# Altium footprint library TH-SMT_WT_MP 1.0.PcbLib: 31 footprints (part 1 of 2)
Each footprint in its own frame and in the unit in brackets; x right, y up, seen from the top. Pads: shape width x height; smd on the part's side, far side on the other; paste and mask are expansions set on the pad; w line width, h text height; cw(c..) or ccw(c..) is an arc to the next point about the centre after c.
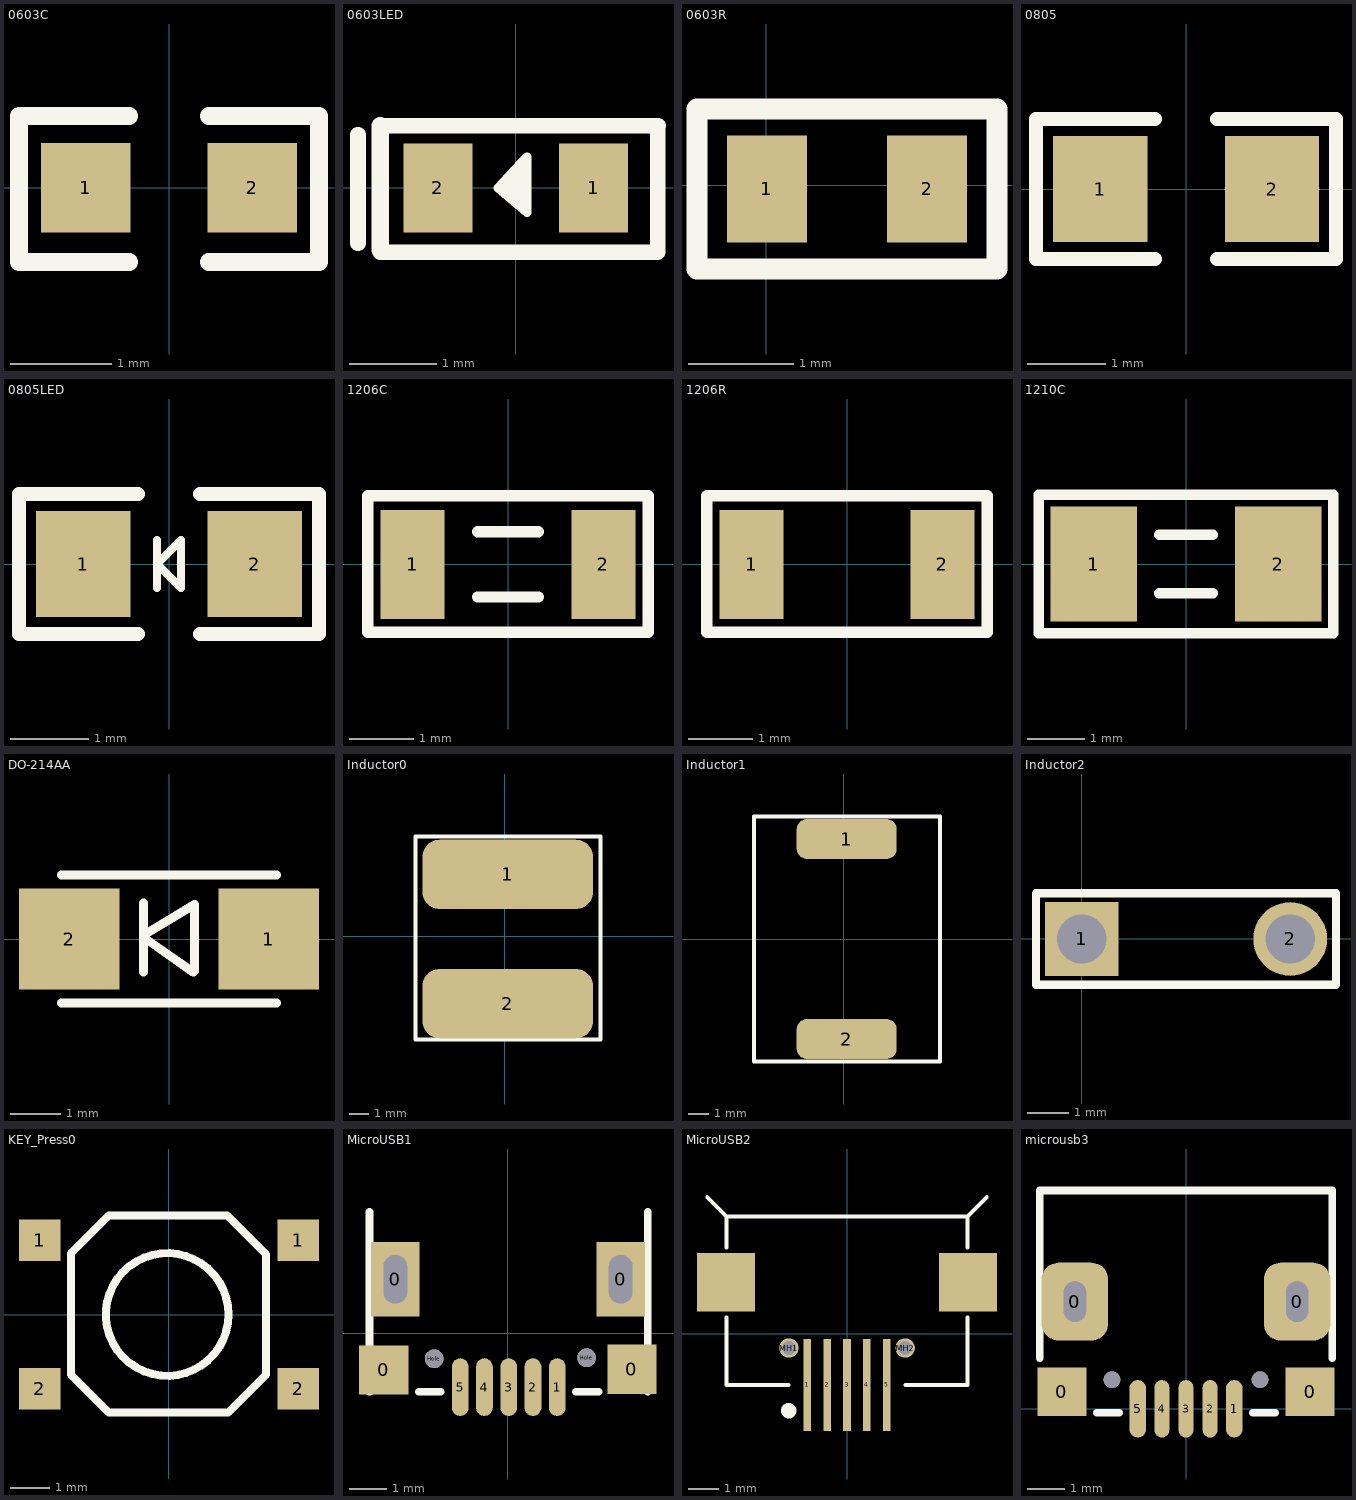
[diagram p0: the footprints below, top view; thin cyan lines are the x and y axes]

## 0603C [mil]
height 27.56
pads (2):
  rect 35x35 smd: 1(-32.5,0) 2(32.5,0)
Top Overlay:
  lines w7: -15.5,-29 -58.5,-29 -58.5,28 -15.5,28 ; 15.5,-29 58.5,-29 58.5,28 15.5,28

## 0603LED [mil]
height 53.15
pads (2):
  rect 31x40 smd: 1(35,0) 2(-35,0)
Top Overlay:
  rectangle: -1.42,-5.57 5,-2.5
  lines w4: 5,-3.5 5,-11 ; 5,6 -8,0 ; -8,0 5,-11 ; -8,0 5,14 ; -8,0 5,14 ; -8,0 5,-11 ; -8,0 5,-2 ; 5,-11 cw(c15,0) 2.25,7.65 5,-2 ; 5,-11 5,14 ; 5,-11 5,-2
  lines w7: -71,-25 -71,24 ; -61,-29 64,-29 64,28
  lines w7.01: -60.98,27.99 64.02,27.99
  lines w7.99: -60.98,-27.99 -60.98,27.99

## 0603R [mil]
height 53.15
pads (2):
  rect 30x40 smd: 1(0.2,-1.48) 2(60.2,-1.48)
Top Overlay:
  lines w7.87: -25.94,-31.48 -25.94,28.52 86.35,28.52 86.35,-31.52 -25.94,-31.48

## 0805 [mm]
height 0.7
pads (2):
  rect 1.2x1.35 smd: 1(-1.092,0) 2(1.092,0)
Top Overlay:
  lines w0.178: -0.394,-0.89 -1.905,-0.89 -1.905,0.89 -0.394,0.89 ; 0.394,-0.89 1.905,-0.89 1.905,0.89 0.394,0.89

## 0805LED [mm]
height 0.7
pads (2):
  rect 1.2x1.35 smd: 1(-1.092,0) 2(1.092,0)
Top Overlay:
  lines w0.102: -0.152,-0.304 -0.152,0.306 ; -0.152,-0.001 0.152,-0.305 0.152,0.305 -0.152,0.001
  lines w0.178: -0.394,-0.89 -1.905,-0.89 -1.905,0.89 -0.394,0.89 ; 0.394,-0.89 1.905,-0.89 1.905,0.89 0.394,0.89

## 1206C [mm]
height 0.7
pads (2):
  rect 1x1.7 smd: 1(-1.486,0) 2(1.486,0)
Top Overlay:
  lines w0.178: -0.47,-0.508 0.47,-0.508 ; -0.47,0.508 0.47,0.508 ; -2.184,-1.054 -2.184,1.067 2.184,1.067 2.184,-1.054 -2.184,-1.054

## 1206R [mm]
height 0.7
pads (2):
  rect 1x1.7 smd: 1(-1.486,0) 2(1.486,0)
Top Overlay:
  lines w0.178: -2.184,-1.054 -2.184,1.067 2.184,1.067 2.184,-1.054 -2.184,-1.054

## 1210C [mm]
height 0.7
pads (2):
  rect 1.5x2 smd: 1(-1.6,0) 2(1.6,0)
Top Overlay:
  lines w0.178: -0.47,-0.508 0.47,-0.508 ; -0.47,0.508 0.47,0.508 ; -2.55,-1.2 2.55,-1.2 2.55,1.2 -2.55,1.2 -2.55,-1.2

## DO-214AA [mm]
height 0.7
pads (2):
  rect 2x2 smd: 1(1.981,0) 2(-1.981,0)
Top Overlay:
  lines w0.178: -2.134,-1.27 2.134,-1.27 ; -2.134,1.27 2.134,1.27 ; -0.508,-0.66 -0.508,0.711 ; -0.508,0.076 0.508,0.686 0.508,-0.635 0.483,-0.66 -0.457,0

## Inductor0 [mm]
height 0.7
pads (2):
  rrect50% 8.6x3.5 smd: 1(0.152,3.124) 2(0.152,-3.378)
Top Overlay:
  lines w0.203: -4.496,-5.182 4.826,-5.182 4.826,5.029 -4.496,5.029 -4.496,-5.182

## Inductor1 [mm]
height 0.7
pads (2):
  rrect50% 5x2 smd: 1(0.152,5) 2(0.152,-5)
Top Overlay:
  lines w0.203: -4.496,-6.121 -4.496,6.121 4.826,6.121 4.826,-6.121 -4.496,-6.121

## Inductor2 [mm]
height 0.55
pads (2):
  rect 1.8x1.8 hole 1.2: 1(0,0)
  round 1.8 hole 1.2: 2(5.08,0)
Top Overlay:
  lines w0.2: -1.118,-1.118 -1.118,1.118 6.198,1.118 6.198,-1.118 -1.118,-1.118

## KEY_Press0 [mm]
height 1.35
pads (4):
  rect 1.05x1.05 smd: 1(-3.277,1.88) 1(3.277,1.88) 2(-3.277,-1.88) 2(3.277,-1.88)
Top Overlay:
  circle w0.203: c-0.046,0 r1.554
  lines w0.203: -2.489,-1.524 -1.524,-2.489 1.499,-2.489 2.464,-1.524 2.464,1.524 1.473,2.515 -1.524,2.515 -2.489,1.549 -2.489,-1.524

## MicroUSB1 [mm]
height 0.7
pads (11):
  rect 1.32x1.32 smd: 0(-3.328,-0.987) 0(3.328,-0.966)
  rect 1.3x2 hole 0.63 slot 1.3 at 90 deg: 0(-3.022,1.447) 0(3.027,1.447)
  oval 0.45x1.55 smd: 1(1.323,-1.447) 2(0.672,-1.447) 3(0.021,-1.447) 4(-0.63,-1.447) 5(-1.281,-1.447)
  round 0.5 hole 0.5: Hole(-1.979,-0.685) Hole(2.111,-0.659)
Top Overlay:
  lines w0.203: -3.713,-1.574 -3.713,3.252 ; -2.392,-1.574 -1.808,-1.574 ; 1.825,-1.574 2.434,-1.574 ; 3.755,-1.574 3.755,3.252

## MicroUSB2 [mm]
pads (9):
  rect 0.25x3 smd: 1(-1.3,-1.679) 2(-0.65,-1.679) 3(0,-1.679) 4(0.65,-1.679) 5(1.3,-1.679)
  round 0.635 hole 0.457 unplated: MH1(-1.9,-0.471) MH2(1.9,-0.471)
  rect 1.9x1.9 smd: ""(-3.95,1.679) ""(3.95,1.679)
Top Overlay:
  circle w0.25: c-1.905,-2.519 r0.125
  lines w0.127: -4.567,4.459 -3.937,3.829 -3.937,2.813 ; -3.937,-1.679 -3.937,0.527 ; -3.9,-1.679 -1.905,-1.679 ; -3.9,3.829 3.9,3.829 ; 1.905,-1.679 3.9,-1.679 ; 3.937,-1.679 3.937,0.527 ; 3.937,2.813 3.937,3.829 4.567,4.459

## microusb3 [mm]
height 0.7
pads (11):
  rect 1.32x1.32 smd: 0(-3.349,0.46) 0(3.349,0.46)
  rrect50% 1.8x2.1 hole 0.6 slot 1.1 at 90 deg: 0(-3,2.894) 0(3,2.894)
  oval 0.45x1.55 smd: 1(1.302,0) 5(-1.302,0)
  oval 0.4x1.55 smd: 2(0.651,0) 3(0,0) 4(-0.651,0)
  round 0.45 hole 0.45: Hole(-2,0.788) Hole(2,0.788)
Top Overlay:
  lines w0.203: -3.95,1.371 -3.95,5.894 3.95,5.894 3.95,1.371 ; -2.413,-0.107 -1.8,-0.107 ; 1.8,-0.107 2.413,-0.107